# EAGLE library part AOZ1284 (library thanics_robotics)
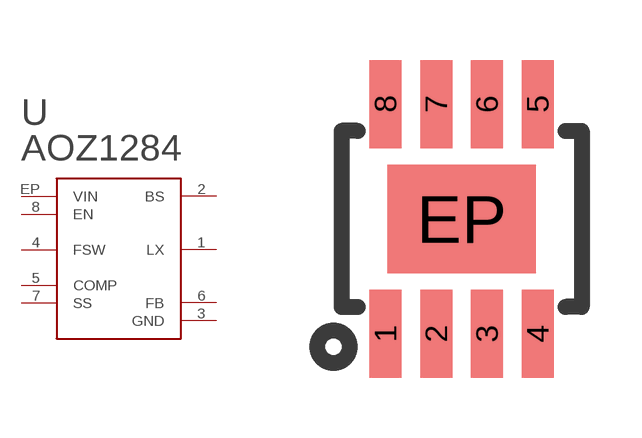
[diagram p41: symbol with the pads of EPAD_SO-8; footprint EPAD_SO-8]

Designator prefix -

## AOZ1284  [EPAD_SO-8]
1  LX
2  BS
3  GND
4  FSW
5  COMP
6  FB
7  SS
8  EN
EP  VIN

## Footprint EPAD_SO-8 (pad centres in mm)
smd 0.8 x 2.2: 1 -1.905,-2.87; 2 -0.635,-2.87; 3 0.635,-2.87; 4 1.905,-2.87; 5 1.905,2.87; 6 0.635,2.87; 7 -0.635,2.87; 8 -1.905,2.87
smd 3.7 x 2.71: EP 0,0